# EAGLE library part 74AC11244PW (library xess)
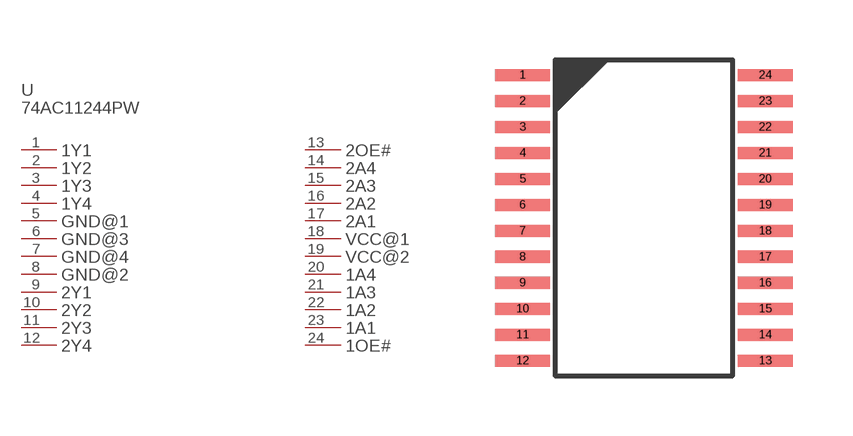
[diagram p110: symbol with the pads of 74AC11244PW; footprint 74AC11244PW]

Designator prefix U; gates PART_VALUE=PART_VALUE-74AC11244PW 1Y1=PL-74AC11244PW 1Y2=PL-74AC11244PW 1Y3=PL-74AC11244PW 1Y4=PL-74AC11244PW GND@1=PL-74AC11244PW GND@3=PL-74AC11244PW GND@4=PL-74AC11244PW GND@2=PL-74AC11244PW 2Y1=PL-74AC11244PW 2Y2=PL-74AC11244PW 2Y3=PL-74AC11244PW 2Y4=PL-74AC11244PW 2OE#=PL-74AC11244PW 2A4=PL-74AC11244PW 2A3=PL-74AC11244PW 2A2=PL-74AC11244PW 2A1=PL-74AC11244PW VCC@1=PL-74AC11244PW VCC@2=PL-74AC11244PW 1A4=PL-74AC11244PW 1A3=PL-74AC11244PW 1A2=PL-74AC11244PW 1A1=PL-74AC11244PW 1OE#=PL-74AC11244PW

## 74AC11244PW  [74AC11244PW]
1  1Y1:P$1
2  1Y2:P$1
3  1Y3:P$1
4  1Y4:P$1
5  GND@1:P$1
6  GND@3:P$1
7  GND@4:P$1
8  GND@2:P$1
9  2Y1:P$1
10  2Y2:P$1
11  2Y3:P$1
12  2Y4:P$1
13  2OE#:P$1
14  2A4:P$1
15  2A3:P$1
16  2A2:P$1
17  2A1:P$1
18  VCC@1:P$1
19  VCC@2:P$1
20  1A4:P$1
21  1A3:P$1
22  1A2:P$1
23  1A1:P$1
24  1OE#:P$1

## Footprint 74AC11244PW (pad centres in mm)
smd 1.37 x 0.3: 1 -0.11,0; 2 -0.11,-0.65; 3 -0.11,-1.3; 4 -0.11,-1.95; 5 -0.11,-2.6; 6 -0.11,-3.25; 7 -0.11,-3.9; 8 -0.11,-4.55; 9 -0.11,-5.2; 10 -0.11,-5.85; 11 -0.11,-6.5; 12 -0.11,-7.15; 13 5.96,-7.15; 14 5.96,-6.5; 15 5.96,-5.85; 16 5.96,-5.2; 17 5.96,-4.55; 18 5.96,-3.9; 19 5.96,-3.25; 20 5.96,-2.6; 21 5.96,-1.95; 22 5.96,-1.3; 23 5.96,-0.65; 24 5.96,0